# Altium integrated library LM35DZ_NOPB.IntLib: 1 symbol
Pins are listed as number, name and electrical type; pins without a type are passive.

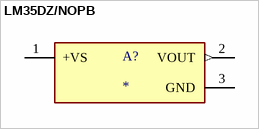
[diagram p0: symbol LM35DZ/NOPB]

## LM35DZ/NOPB
designator A?
MP: LM35DZ/NOPB; Package: None; Price: None; Availability: Unavailable; Value: *
footprint TO92127P521H735-3
pins: 1 +VS (power), 2 VOUT (out), 3 GND (power)